# EAGLE library part WIFLY_GSX (library SparkFun-RF)
WiFi module
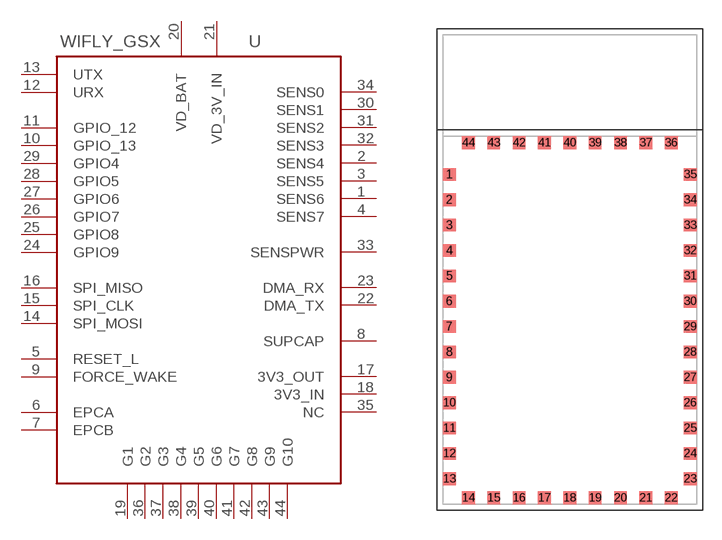
[diagram p50: symbol with the pads of WIFLY_GSX; footprint WIFLY_GSX]

Designator prefix -

## WIFLY_GSX  [WIFLY_GSX]
1  SENS6
2  SENS4
3  SENS5
4  SENS7
5  RESET_L
6  EPCA
7  EPCB
8  SUPCAP
9  FORCE_WAKE
10  GPIO_13
11  GPIO_12
12  URX
13  UTX
14  SPI_MOSI
15  SPI_CLK
16  SPI_MISO
17  3V3_OUT
18  3V3_IN
19  G1
20  VD_BAT
21  VD_3V_IN
22  DMA_TX
23  DMA_RX
24  GPIO9
25  GPIO8
26  GPIO7
27  GPIO6
28  GPIO5
29  GPIO4
30  SENS1
31  SENS2
32  SENS3
33  SENSPWR
34  SENS0
35  NC
36  G2
37  G3
38  G4
39  G5
40  G6
41  G7
42  G8
43  G9
44  G10

## Footprint WIFLY_GSX (pad centres in mm)
smd 1 x 1: 1 0.5,26; 2 0.5,24; 3 0.5,22; 4 0.5,20; 5 0.5,18; 6 0.5,16; 7 0.5,14; 8 0.5,12; 9 0.5,10; 10 0.5,8; 11 0.5,6; 12 0.5,4; 13 0.5,2; 14 2,0.5; 15 4,0.5; 16 6,0.5; 17 8,0.5; 18 10,0.5; 19 12,0.5; 20 14,0.5; 21 16,0.5; 22 18,0.5; 23 19.5,2; 24 19.5,4; 25 19.5,6; 26 19.5,8; 27 19.5,10; 28 19.5,12; 29 19.5,14; 30 19.5,16; 31 19.5,18; 32 19.5,20; 33 19.5,22; 34 19.5,24; 35 19.5,26; 36 18,28.5; 37 16,28.5; 38 14,28.5; 39 12,28.5; 40 10,28.5; 41 8,28.5; 42 6,28.5; 43 4,28.5; 44 2,28.5